# EAGLE library part AD7771 (library EIT_Recorder)
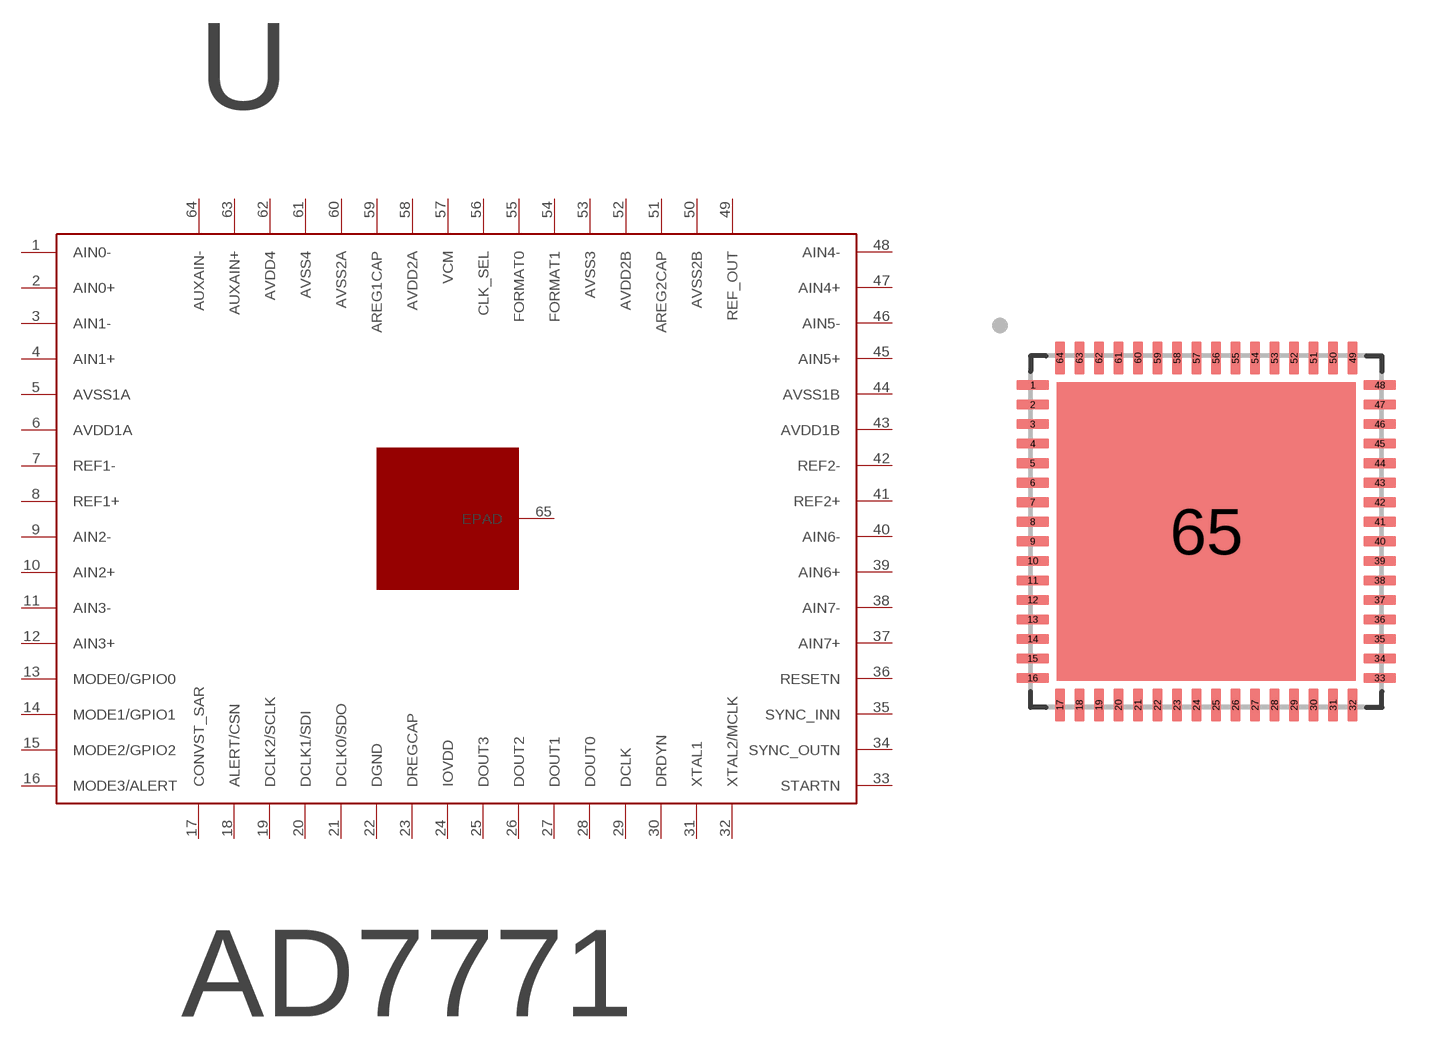
[diagram p0: symbol with the pads of LFCSP64_CUSTOM; footprint LFCSP64_CUSTOM]

Designator prefix U

## AD7771  [LFCSP64_CUSTOM]
1  AIN0-
2  AIN0+
3  AIN1-
4  AIN1+  in
5  AVSS1A
6  AVDD1A  pwr
7  REF1-
8  REF1+  in
9  AIN2-
10  AIN2+
11  AIN3-
12  AIN3+  in
13  MODE0/GPIO0
14  MODE1/GPIO1
15  MODE2/GPIO2
16  MODE3/ALERT
17  CONVST_SAR  in
18  ALERT/CSN  in
19  DCLK2/SCLK  in
20  DCLK1/SDI  in
21  DCLK0/SDO  out
22  DGND  pwr
23  DREGCAP  pwr
24  IOVDD  pwr
25  DOUT3
26  DOUT2
27  DOUT1  out
28  DOUT0  out
29  DCLK  out
30  DRDYN  out
31  XTAL1  in
32  XTAL2/MCLK  in
33  STARTN  in
34  SYNC_OUTN  in
35  SYNC_INN  in
36  RESETN  in
37  AIN7+  in
38  AIN7-  in
39  AIN6+  in
40  AIN6-  in
41  REF2+  in
42  REF2-  in
43  AVDD1B  pwr
44  AVSS1B  pwr
45  AIN5+  in
46  AIN5-  in
47  AIN4+  in
48  AIN4-  in
49  REF_OUT  out
50  AVSS2B  pwr
51  AREG2CAP  pwr
52  AVDD2B  pwr
53  AVSS3  pwr
54  FORMAT1  in
55  FORMAT0  in
56  CLK_SEL  in
57  VCM  out
58  AVDD2A  pwr
59  AREG1CAP  pwr
60  AVSS2A  pwr
61  AVSS4  pwr
62  AVDD4  pwr
63  AUXAIN+  in
64  AUXAIN-  in
65  EPAD  pwr

## Footprint LFCSP64_CUSTOM (pad centres in mm)
smd 0.84 x 0.26: 1 -4.445,3.75; 2 -4.445,3.25; 3 -4.445,2.75; 4 -4.445,2.25; 5 -4.445,1.75; 6 -4.445,1.25; 7 -4.445,0.75; 8 -4.445,0.25; 9 -4.445,-0.25; 10 -4.445,-0.75; 11 -4.445,-1.25; 12 -4.445,-1.75; 13 -4.445,-2.25; 14 -4.445,-2.75; 15 -4.445,-3.25; 16 -4.445,-3.75; 33 4.445,-3.75; 34 4.445,-3.25; 35 4.445,-2.75; 36 4.445,-2.25; 37 4.445,-1.75; 38 4.445,-1.25; 39 4.445,-0.75; 40 4.445,-0.25; 41 4.445,0.25; 42 4.445,0.75; 43 4.445,1.25; 44 4.445,1.75; 45 4.445,2.25; 46 4.445,2.75; 47 4.445,3.25; 48 4.445,3.75
smd 0.26 x 0.84: 17 -3.75,-4.445; 18 -3.25,-4.445; 19 -2.75,-4.445; 20 -2.25,-4.445; 21 -1.75,-4.445; 22 -1.25,-4.445; 23 -0.75,-4.445; 24 -0.25,-4.445; 25 0.25,-4.445; 26 0.75,-4.445; 27 1.25,-4.445; 28 1.75,-4.445; 29 2.25,-4.445; 30 2.75,-4.445; 31 3.25,-4.445; 32 3.75,-4.445; 49 3.75,4.445; 50 3.25,4.445; 51 2.75,4.445; 52 2.25,4.445; 53 1.75,4.445; 54 1.25,4.445; 55 0.75,4.445; 56 0.25,4.445; 57 -0.25,4.445; 58 -0.75,4.445; 59 -1.25,4.445; 60 -1.75,4.445; 61 -2.25,4.445; 62 -2.75,4.445; 63 -3.25,4.445; 64 -3.75,4.445
smd 7.65 x 7.65: 65 0,0